# Altium schematic symbol library connector_8pin.SchLib: 1 symbol
Pins are listed as number, name and electrical type; pins without a type are passive.

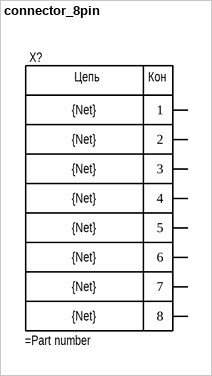
[diagram p0: symbol connector_8pin]

## connector_8pin
designator X?  Parameter 1: {Net}
Parameter 2: {Net}; Parameter 3: {Net}; Parameter 4: {Net}; Parameter 5: {Net}; Parameter 6: {Net}; Parameter 7: {Net}; Parameter 8: {Net}
pins: 1, 2, 3, 4, 5, 6, 7, 8
text: Цепь; Кон